# Altium integrated library L18P020S05.IntLib: 1 symbol
Pins are listed as number, name and electrical type; pins without a type are passive.

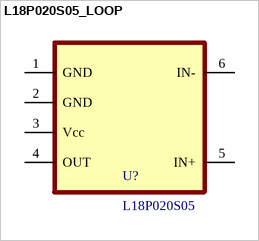
[diagram p0: symbol L18P020S05_LOOP]

## L18P020S05_LOOP
designator U?, comment L18P020S05
Current sensor 20A 1 Channel Hall Effect Open Loop Bidirectional Module; MP: L18P020S05; Price: None; Value: *; Package: TH
pins: 1 GND, 2 GND, 3 Vcc, 4 OUT, 5 IN+, 6 IN- (power)